# EAGLE library part MC_1,5/6 (library isystems-phoenixcontact)
MINI COMBICON Steckverbinder im Raster 3,5mm Einstöckige Grungehäuse (für Reflow-Prozesse)
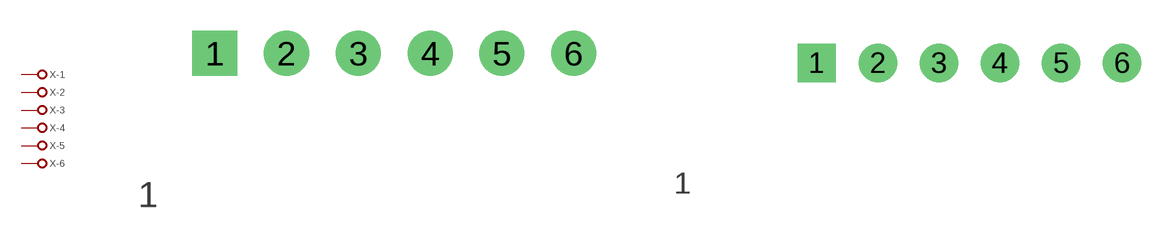
[diagram p14: symbol with the pads of MC_1,5/6-G-3,5; footprints MC_1,5/6-G-3,5, MC_1,5/6-GF-3,5]

Designator prefix X; gates -1=CONX1 -2=CONX1 -3=CONX1 -4=CONX1 -5=CONX1 -6=CONX1

## MC_1,5/6-G-3,5  [MC_1,5/6-G-3,5]
1  -1:P
2  -2:P
3  -3:P
4  -4:P
5  -5:P
6  -6:P

## MC_1,5/6-GF-3,5  [MC_1,5/6-GF-3,5]
Pads as for MC_1,5/6-G-3,5

## MC_1,5/6-G-3.5(VERT)  [MCV_1,5/6-G-3,5]
Pads as for MC_1,5/6-G-3,5

## Footprint MC_1,5/6-G-3,5 (pad centres in mm)
drill 1.4 pad 2.2 square: 1 -8.75,0
drill 1.4 pad 2.2: 2 -5.25,0; 3 -1.75,0; 4 1.75,0; 5 5.25,0; 6 8.75,0

## Footprint MC_1,5/6-GF-3,5 (pad centres in mm)
drill 1.4 pad 2.2 square: 1 -8.75,0
drill 1.4 pad 2.2: 2 -5.25,0; 3 -1.75,0; 4 1.75,0; 5 5.25,0; 6 8.75,0

## Footprint MCV_1,5/6-G-3,5 (pad centres in mm)
drill 1.4 pad 2.2 square: 1 -8.75,0
drill 1.4 pad 2.2: 2 -5.25,0; 3 -1.75,0; 4 1.75,0; 5 5.25,0; 6 8.75,0